# Altium footprint library ADC01.PcbLib: 1 footprints
Each footprint in its own frame and in the unit in brackets; x right, y up, seen from the top. Pads: shape width x height; smd on the part's side, far side on the other; paste and mask are expansions set on the pad; w line width, h text height; cw(c..) or ccw(c..) is an arc to the next point about the centre after c.
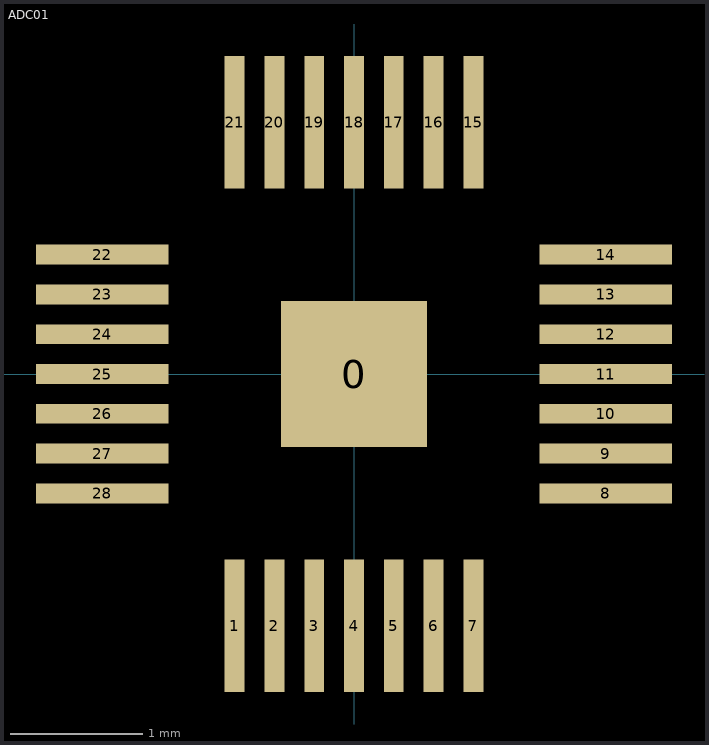
[diagram p0: the footprint, top view; thin cyan lines are the x and y axes]

## ADC01 [mm]
pads (29):
  rect 1.1x1.1 smd paste-2 mask+2: 0(0,0)
  rect 0.15x1 smd: 1(-0.9,-1.9) 2(-0.6,-1.9) 3(-0.3,-1.9) 4(0,-1.9) 5(0.3,-1.9) 6(0.6,-1.9) 7(0.9,-1.9) 15(0.9,1.9) 16(0.6,1.9) 17(0.3,1.9) 18(0,1.9) 19(-0.3,1.9) 20(-0.6,1.9) 21(-0.9,1.9)
  rect 1x0.15 smd: 8(1.9,-0.9) 9(1.9,-0.6) 10(1.9,-0.3) 11(1.9,0) 12(1.9,0.3) 13(1.9,0.6) 14(1.9,0.9) 22(-1.9,0.9) 23(-1.9,0.6) 24(-1.9,0.3) 25(-1.9,0) 26(-1.9,-0.3) 27(-1.9,-0.6) 28(-1.9,-0.9)